# Altium integrated library Lattice ORCA Series 4.IntLib: 36 symbols (part 1 of 9)
Pins are listed as number, name and electrical type; pins without a type are passive.

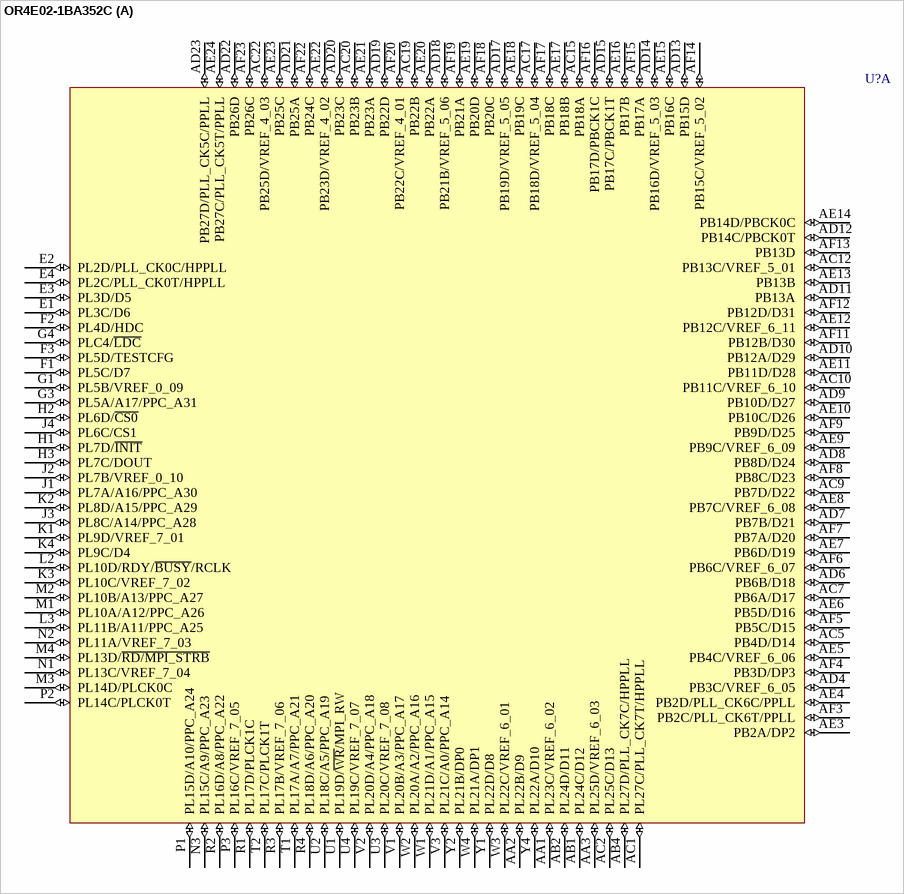
[diagram p0: symbol OR4E02-1BA352C]

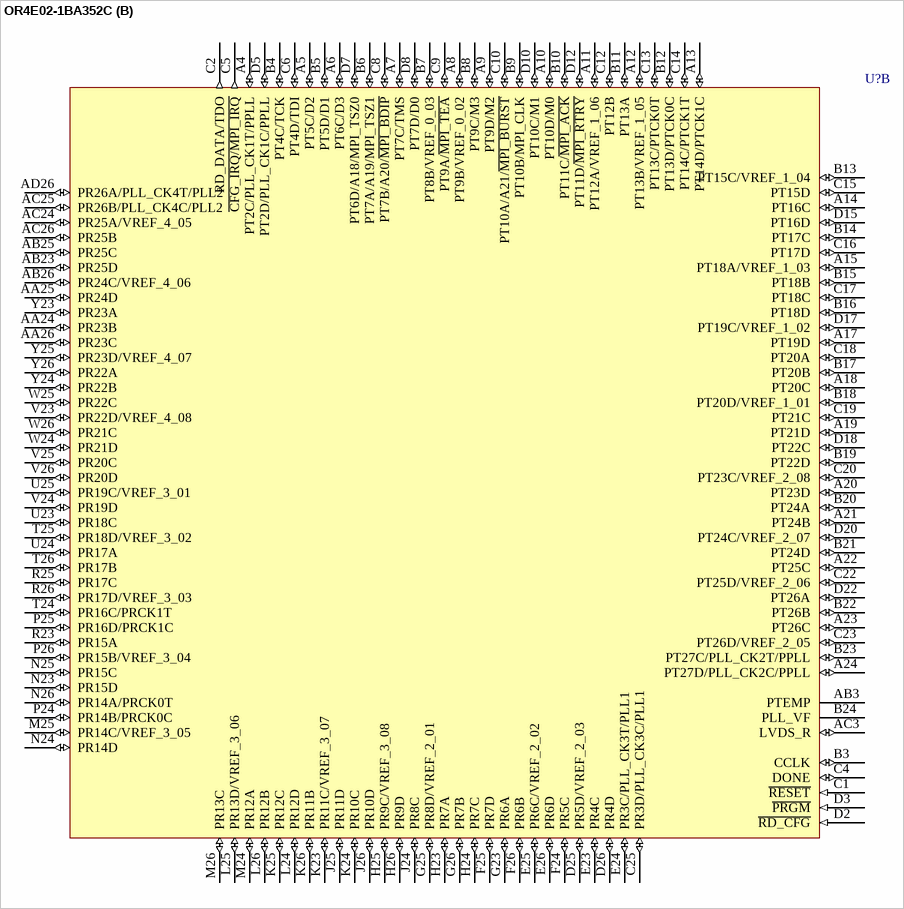
[diagram p1: symbol OR4E02-1BA352C]

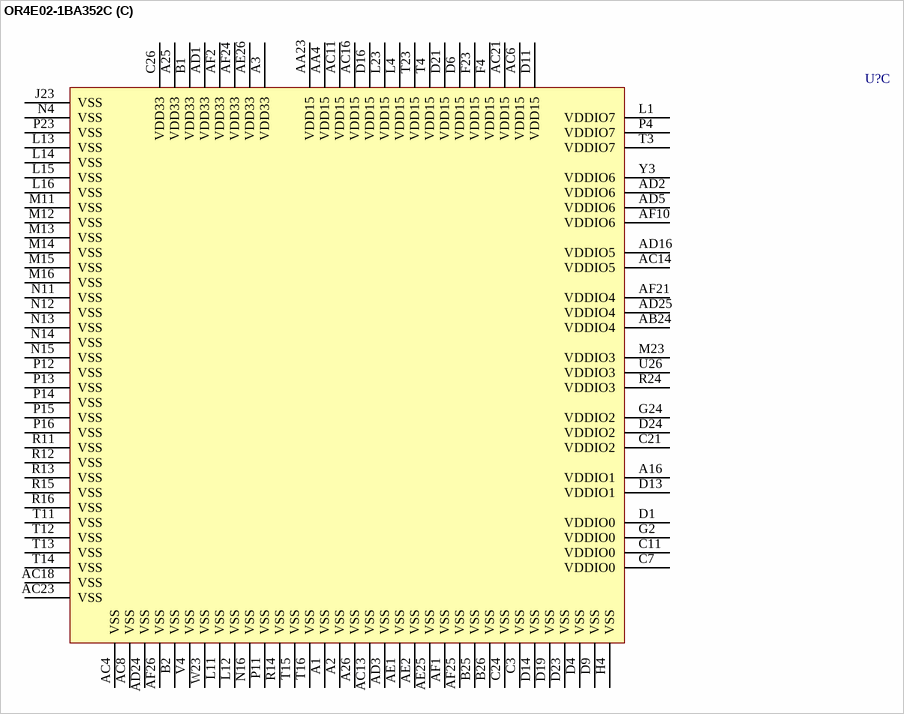
[diagram p2: symbol OR4E02-1BA352C]

## OR4E02-1BA352C
designator U?
ORCA Series 4 FPGA: 1.5 V, Commercial Grade, 405 I/Os.; Published: 21-May-2003; LatestRevisionDate: 13-Apr-2006; LatestRevisionNote: IPC-7351 Footprint Added.; DatasheetVersion: Aug-2003; PackageVersion: pkg_32, Aug-2005; PackageReference: BGA388; Publisher: Altium Limited; PackageDescription: 388-Ball Ball Grid Array (BGA388); ComponentLink1Description: Manufacturer Link; ComponentLink1URL: http://www.latticesemi.com/products/fpga/orca/orca4/index.cfm; ComponentLink2Description: Datasheet; ComponentLink2URL: http://www.latticesemi.com/account/_download.cfm?AMID=3970; ComponentLink3Description: Lattice Login; ComponentLink3URL: http://www.latticesemi.com/account/login.cfm
footprint BGA388 (BGA, 388-Leads, Body 35x35mm, Pitch 1.27mm)
3D model OR4E02-BGA388 (388-Ball Ball Grid Array (BGA388))
part A pins: AA1 PL23C/VREF_6_02 (io), AA2 PL22B/D9 (io), AA3 PL25D/VREF_6_03 (io), AB1 PL24C/D12 (io), AB2 PL24D/D11 (io), AB4 PL27D/PLL_CK7C/HPPLL (io), AC1 PL27C/PLL_CK7T/HPPLL (io), AC2 PL25C/D13 (io), AC5 PB4D/D14 (io), AC7 PB6A/D17 (io), AC9 PB7D/D22 (io), AC10 PB11C/VREF_6_10 (io), AC12 PB13C/VREF_5_01 (io), AC15 PB18A (io), AC17 PB18D/VREF_5_04 (io), AC19 PB22B (io), AC20 PB23B (io), AC22 PB25D/VREF_4_03 (io), AD4 PB3C/VREF_6_05 (io), AD6 PB6B/D18 (io), AD7 PB7B/D21 (io), AD8 PB8D/D24 (io), AD9 PB10D/D27 (io), AD10 PB12A/D29 (io), AD11 PB13A (io), AD12 PB14C/PBCK0T (io), AD13 PB15D (io), AD14 PB16D/VREF_5_03 (io), AD15 PB17C/PBCK1T (io), AD17 PB19D/VREF_5_05 (io), AD18 PB21B/VREF_5_06 (io), AD19 PB22D (io), AD20 PB23C (io), AD21 PB25A (io), AD22 PB26D (io), AD23 PB27D/PLL_CK5C/PPLL (io), AE3 PB2A/DP2 (io), AE4 PB2D/PLL_CK6C/PPLL (io), AE5 PB4C/VREF_6_06 (io), AE6 PB5D/D16 (io), AE7 PB6D/D19 (io), AE8 PB7C/VREF_6_08 (io), AE9 PB9C/VREF_6_09 (io), AE10 PB10C/D26 (io), AE11 PB11D/D28 (io), AE12 PB12C/VREF_6_11 (io), AE13 PB13B (io), AE14 PB14D/PBCK0C (io), AE15 PB16C (io), AE16 PB17B (io), AE17 PB18B (io), AE18 PB19C (io), AE19 PB20D (io), AE20 PB22A (io), AE21 PB23A (io), AE22 PB23D/VREF_4_02 (io), AE23 PB25C (io), AE24 PB27C/PLL_CK5T/PPLL (io), AF3 PB2C/PLL_CK6T/PPLL (io), AF4 PB3D/DP3 (io), AF5 PB5C/D15 (io), AF6 PB6C/VREF_6_07 (io), AF7 PB7A/D20 (io), AF8 PB8C/D23 (io), AF9 PB9D/D25 (io), AF11 PB12B/D30 (io), AF12 PB12D/D31 (io), AF13 PB13D (io), AF14 PB15C/VREF_5_02 (io), AF15 PB17A (io), AF16 PB17D/PBCK1C (io), AF17 PB18C (io), AF18 PB20C (io), AF19 PB21A (io), AF20 PB22C/VREF_4_01 (io), AF22 PB24C (io), AF23 PB26C (io), E1 PL3C/D6 (io), E2 PL2D/PLL_CK0C/HPPLL (io), E3 PL3D/D5 (io), E4 PL2C/PLL_CK0T/HPPLL (io), F1 PL5C/D7 (io), F2 PL4D/HDC (io), F3 PL5D/TESTCFG (io), G1 PL5B/VREF_0_09 (io), G3 PL5A/A17/PPC_A31 (io), G4 PLC4/~{LDC} (io), H1 PL7D/~{INIT} (io), H2 PL6D/~{CS0} (io), H3 PL7C/DOUT (io), J1 PL7A/A16/PPC_A30 (io), J2 PL7B/VREF_0_10 (io), J3 PL8C/A14/PPC_A28 (io), J4 PL6C/CS1 (io), K1 PL9D/VREF_7_01 (io), K2 PL8D/A15/PPC_A29 (io), K3 PL10C/VREF_7_02 (io), K4 PL9C/D4 (io), L2 PL10D/RDY/~{BUSY}/RCLK (io), L3 PL11B/A11/PPC_A25 (io), M1 PL10A/A12/PPC_A26 (io), M2 PL10B/A13/PPC_A27 (io), M3 PL14D/PLCK0C (io), M4 PL13D/~{RD/MPI_STRB} (io), N1 PL13C/VREF_7_04 (io), N2 PL11A/VREF_7_03 (io), N3 PL15C/A9/PPC_A23 (io), P1 PL15D/A10/PPC_A24 (io), P2 PL14C/PLCK0T (io), P3 PL16C/VREF_7_05 (io), R1 PL17D/PLCK1C (io), R2 PL16D/A8/PPC_A22 (io), R3 PL17B/VREF_7_06 (io), R4 PL18D/A6/PPC_A20 (io), T1 PL17A/A7/PPC_A21 (io), T2 PL17C/PLCK1T (io), U1 PL19D/~{WR}/MPI_RW (io), U2 PL18C/A5/PPC_A19 (io), U3 PL20C/VREF_7_08 (io), U4 PL19C/VREF_7_07 (io), V1 PL20B/A3/PPC_A17 (io), V2 PL20D/A4/PPC_A18 (io), V3 PL21C/A0/PPC_A14 (io), W1 PL21D/A1/PPC_A15 (io), W2 PL20A/A2/PPC_A16 (io), W3 PL22C/VREF_6_01 (io), W4 PL21A/DP1 (io), Y1 PL22D/D8 (io), Y2 PL21B/DP0 (io), Y4 PL22A/D10 (io)
part B pins: A4 PT2C/PLL_CK1T/PPLL (io), A5 PT5C/D2 (io), A6 PT6C/D3 (io), A7 PT7C/TMS (io), A8 PT9B/VREF_0_02 (io), A9 PT9D/M2 (io), A10 PT10D/M0 (io), A11 PT12A/VREF_1_06 (io), A12 PT13B/VREF_1_05 (io), A13 PT14D/PTCK1C (io), A14 PT16C (io), A15 PT18A/VREF_1_03 (io), A17 PT19D (io), A18 PT20C (io), A19 PT21D (io), A20 PT23D (io), A21 PT24B (io), A22 PT25C (io), A23 PT26C (io), A24 PT27D/PLL_CK2C/PPLL (io), AA24 PR23B (io), AA25 PR24D (io), AA26 PR23C (io), AB3 PTEMP, AB23 PR25D (io), AB25 PR25C (io), AB26 PR24C/VREF_4_06 (io), AC3 LVDS_R (io), AC24 PR25A/VREF_4_05 (io), AC25 PR26B/PLL_CK4C/PLL2 (io), AC26 PR25B (io), AD26 PR26A/PLL_CK4T/PLL2 (io), B3 CCLK (io), B4 PT4C/TCK (io), B5 PT5D/D1 (io), B6 PT7A/A19/MPI_TSZ1 (io), B7 PT8B/VREF_0_03 (io), B8 PT9C/M3 (io), B9 PT10B/MPI_CLK (io), B10 PT11C/~{MPI_ACK} (io), B11 PT13A (io), B12 PT13D/PTCK0C (io), B13 PT15C/VREF_1_04 (io), B14 PT17C (io), B15 PT18B (io), B16 PT18D (io), B17 PT20B (io), B18 PT20D/VREF_1_01 (io), B19 PT22D (io), B20 PT24A (io), B21 PT24D (io), B22 PT26B (io), B23 PT27C/PLL_CK2T/PPLL (io), B24 PLL_VF, C1 ~{RESET} (in), C2 RD_DATA/TDO (out), C4 DONE (io), C5 ~{CFG_IRQ/MPI_IRQ} (out), C6 PT4D/TDI (io), C8 PT7B/A20/~{MPI_BDIP} (io), C9 PT9A/~{MPI_TEA} (io), C10 PT10A/A21/~{MPI_BURST} (io), C12 PT12B (io), C13 PT13C/PTCK0T (io), C14 PT14C/PTCK1T (io), C15 PT15D (io), C16 PT17D (io), C17 PT18C (io), C18 PT20A (io), C19 PT21C (io), C20 PT23C/VREF_2_08 (io), C22 PT25D/VREF_2_06 (io), C23 PT26D/VREF_2_05 (io), C25 PR3D/PLL_CK3C/PLL1 (io), D2 ~{RD_CFG} (in), D3 ~{PRGM} (in), D5 PT2D/PLL_CK1C/PPLL (io), D7 PT6D/A18/MPI_TSZ0 (io), D8 PT7D/D0 (io), D10 PT10C/M1 (io), D12 PT11D/~{MPI_RTRY} (io), D15 PT16D (io), D17 PT19C/VREF_1_02 (io), D18 PT22C (io), D20 PT24C/VREF_2_07 (io), D22 PT26A (io), D25 PR5D/VREF_2_03 (io), D26 PR4D (io), E23 PR4C (io), E24 PR3C/PLL_CK3T/PLL1 (io), E25 PR6C/VREF_2_02 (io), E26 PR6D (io), F24 PR5C (io), F25 PR7D (io), F26 PR6B (io), G23 PR6A (io), G25 PR8D/VREF_2_01 (io), G26 PR7B (io), H23 PR7A (io), H24 PR7C (io), H25 PR9C/VREF_3_08 (io), H26 PR9D (io), J24 PR8C (io), J25 PR11D (io), J26 PR10D (io), K23 PR11C/VREF_3_07 (io), K24 PR10C (io), K25 PR12C (io), K26 PR11B (io), L24 PR12D (io), L25 PR13D/VREF_3_06 (io), L26 PR12B (io), M24 PR12A (io), M25 PR14C/VREF_3_05 (io), M26 PR13C (io), N23 PR15D (io), N24 PR14D (io), N25 PR15C (io), N26 PR14A/PRCK0T (io), P24 PR14B/PRCK0C (io), P25 PR16D/PRCK1C (io), P26 PR15B/VREF_3_04 (io), R23 PR15A (io), R25 PR17C (io), R26 PR17D/VREF_3_03 (io), T24 PR16C/PRCK1T (io), T25 PR18D/VREF_3_02 (io), T26 PR17B (io), U23 PR18C (io), U24 PR17A (io), U25 PR19C/VREF_3_01 (io), V23 PR22D/VREF_4_08 (io), V24 PR19D (io), V25 PR20C (io), V26 PR20D (io), W24 PR21D (io), W25 PR22C (io), W26 PR21C (io), Y23 PR23A (io), Y24 PR22B (io), Y25 PR23D/VREF_4_07 (io), Y26 PR22A (io)
part C pins: A1 VSS (power), A2 VSS (power), A3 VDD33 (power), A16 VDDIO1 (power), A25 VDD33 (power), A26 VSS (power), AA4 VDD15 (power), AA23 VDD15 (power), AB24 VDDIO4 (power), AC4 VSS (power), AC6 VDD15 (power), AC8 VSS (power), AC11 VDD15 (power), AC13 VSS (power), AC14 VDDIO5 (power), AC16 VDD15 (power), AC18 VSS (power), AC21 VDD15 (power), AC23 VSS (power), AD1 VDD33 (power), AD2 VDDIO6 (power), AD3 VSS (power), AD5 VDDIO6 (power), AD16 VDDIO5 (power), AD24 VSS (power), AD25 VDDIO4 (power), AE1 VSS (power), AE2 VSS (power), AE25 VSS (power), AE26 VDD33 (power), AF1 VSS (power), AF2 VDD33 (power), AF10 VDDIO6 (power), AF21 VDDIO4 (power), AF24 VDD33 (power), AF25 VSS (power), AF26 VSS (power), B1 VDD33 (power), B2 VSS (power), B25 VSS (power), B26 VSS (power), C3 VSS (power), C7 VDDIO0 (power), C11 VDDIO0 (power), C21 VDDIO2 (power), C24 VSS (power), C26 VDD33 (power), D1 VDDIO0 (power), D4 VSS (power), D6 VDD15 (power), D9 VSS (power), D11 VDD15 (power), D13 VDDIO1 (power), D14 VSS (power), D16 VDD15 (power), D19 VSS (power), D21 VDD15 (power), D23 VSS (power), D24 VDDIO2 (power), F4 VDD15 (power), F23 VDD15 (power), G2 VDDIO0 (power), G24 VDDIO2 (power), H4 VSS (power), J23 VSS (power), L1 VDDIO7 (power), L4 VDD15 (power), L11 VSS (power), L12 VSS (power), L13 VSS (power), L14 VSS (power), L15 VSS (power), L16 VSS (power), L23 VDD15 (power), M11 VSS (power), M12 VSS (power), M13 VSS (power), M14 VSS (power), M15 VSS (power), M16 VSS (power), M23 VDDIO3 (power), N4 VSS (power), N11 VSS (power), N12 VSS (power), N13 VSS (power), N14 VSS (power), N15 VSS (power), N16 VSS (power), P4 VDDIO7 (power), P11 VSS (power), P12 VSS (power), P13 VSS (power), P14 VSS (power), P15 VSS (power), P16 VSS (power), P23 VSS (power), R11 VSS (power), R12 VSS (power), R13 VSS (power), R14 VSS (power), R15 VSS (power), R16 VSS (power), R24 VDDIO3 (power), T3 VDDIO7 (power), T4 VDD15 (power), T11 VSS (power), T12 VSS (power), T13 VSS (power), T14 VSS (power), T15 VSS (power), T16 VSS (power), T23 VDD15 (power), U26 VDDIO3 (power), V4 VSS (power), W23 VSS (power), Y3 VDDIO6 (power)

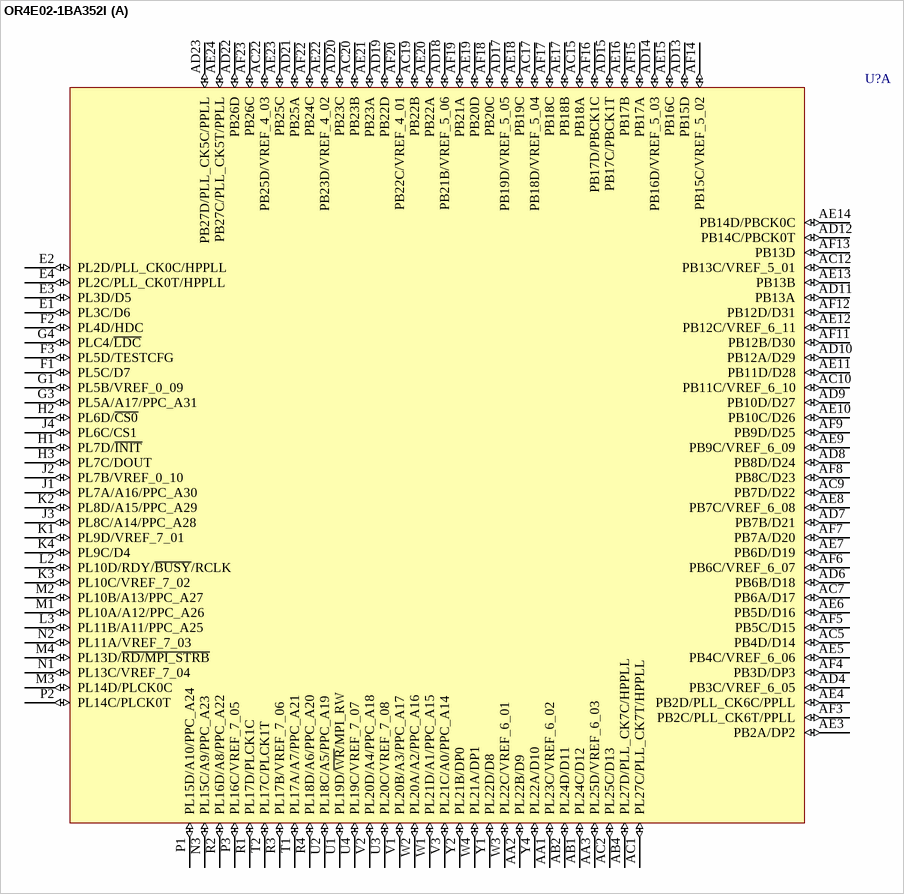
[diagram p3: symbol OR4E02-1BA352I]

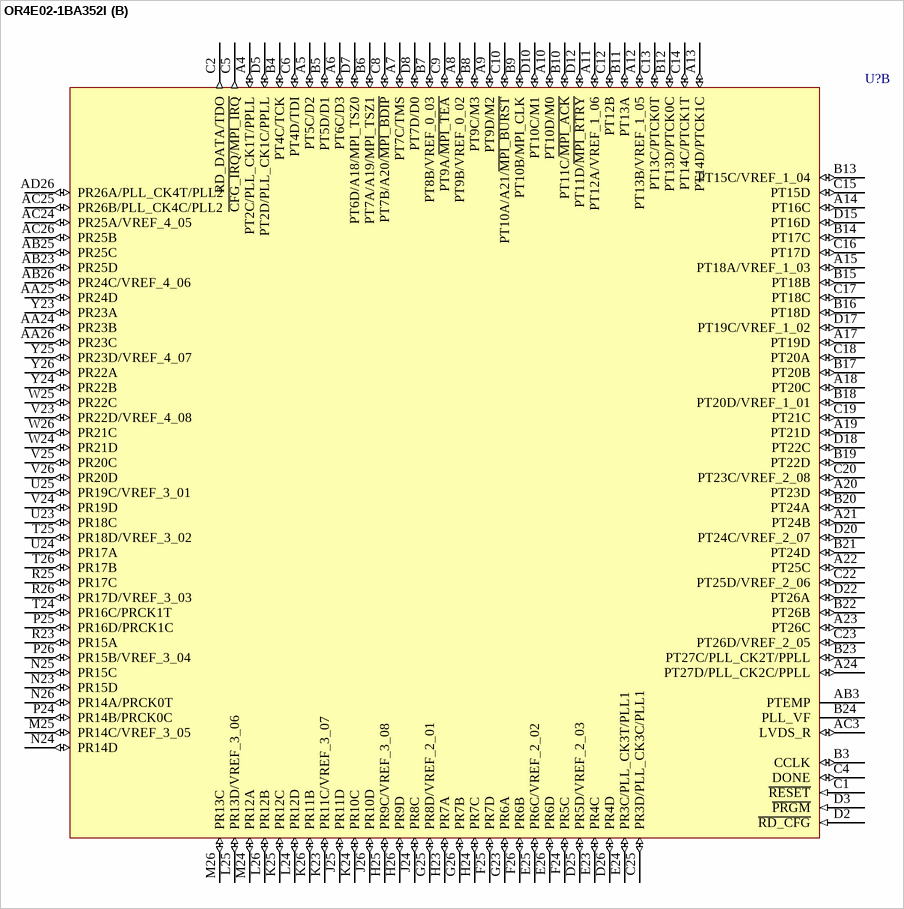
[diagram p4: symbol OR4E02-1BA352I]

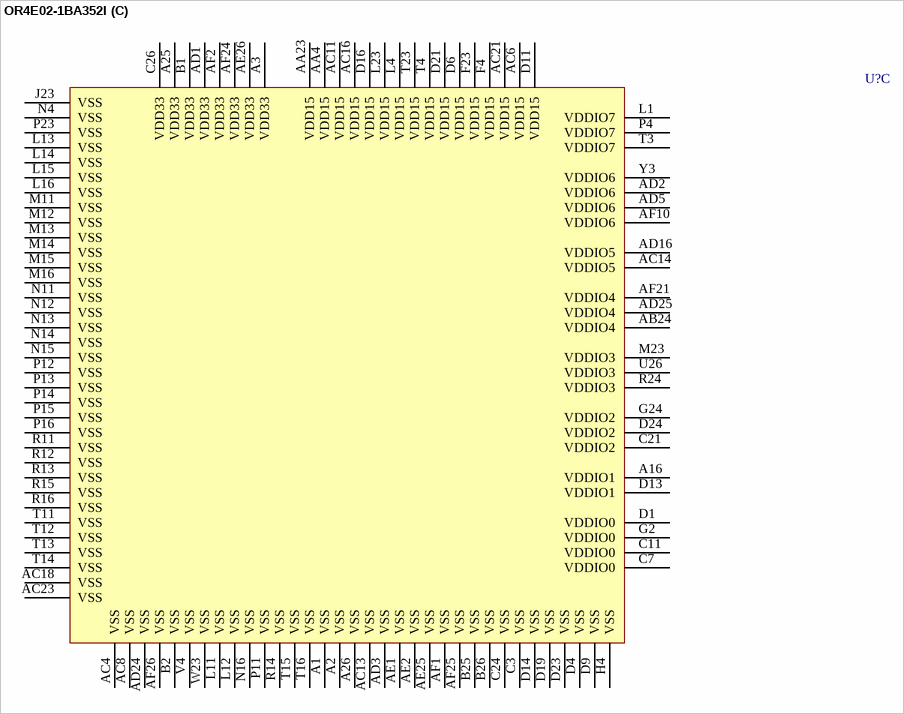
[diagram p5: symbol OR4E02-1BA352I]

## OR4E02-1BA352I
designator U?
ORCA Series 4 FPGA: 1.5 V, Industrial Grade, 405 I/Os.; Published: 21-May-2003; LatestRevisionDate: 13-Apr-2006; LatestRevisionNote: IPC-7351 Footprint Added.; DatasheetVersion: Aug-2003; PackageVersion: pkg_32, Aug-2005; PackageReference: BGA388; Publisher: Altium Limited; PackageDescription: 388-Ball Ball Grid Array (BGA388); ComponentLink1Description: Manufacturer Link; ComponentLink1URL: http://www.latticesemi.com/products/fpga/orca/orca4/index.cfm; ComponentLink2Description: Datasheet; ComponentLink2URL: http://www.latticesemi.com/account/_download.cfm?AMID=3970; ComponentLink3Description: Lattice Login; ComponentLink3URL: http://www.latticesemi.com/account/login.cfm
footprint BGA388 (BGA, 388-Leads, Body 35x35mm, Pitch 1.27mm)
3D model OR4E02-BGA388 (388-Ball Ball Grid Array (BGA388))
part A pins: AA1 PL23C/VREF_6_02 (io), AA2 PL22B/D9 (io), AA3 PL25D/VREF_6_03 (io), AB1 PL24C/D12 (io), AB2 PL24D/D11 (io), AB4 PL27D/PLL_CK7C/HPPLL (io), AC1 PL27C/PLL_CK7T/HPPLL (io), AC2 PL25C/D13 (io), AC5 PB4D/D14 (io), AC7 PB6A/D17 (io), AC9 PB7D/D22 (io), AC10 PB11C/VREF_6_10 (io), AC12 PB13C/VREF_5_01 (io), AC15 PB18A (io), AC17 PB18D/VREF_5_04 (io), AC19 PB22B (io), AC20 PB23B (io), AC22 PB25D/VREF_4_03 (io), AD4 PB3C/VREF_6_05 (io), AD6 PB6B/D18 (io), AD7 PB7B/D21 (io), AD8 PB8D/D24 (io), AD9 PB10D/D27 (io), AD10 PB12A/D29 (io), AD11 PB13A (io), AD12 PB14C/PBCK0T (io), AD13 PB15D (io), AD14 PB16D/VREF_5_03 (io), AD15 PB17C/PBCK1T (io), AD17 PB19D/VREF_5_05 (io), AD18 PB21B/VREF_5_06 (io), AD19 PB22D (io), AD20 PB23C (io), AD21 PB25A (io), AD22 PB26D (io), AD23 PB27D/PLL_CK5C/PPLL (io), AE3 PB2A/DP2 (io), AE4 PB2D/PLL_CK6C/PPLL (io), AE5 PB4C/VREF_6_06 (io), AE6 PB5D/D16 (io), AE7 PB6D/D19 (io), AE8 PB7C/VREF_6_08 (io), AE9 PB9C/VREF_6_09 (io), AE10 PB10C/D26 (io), AE11 PB11D/D28 (io), AE12 PB12C/VREF_6_11 (io), AE13 PB13B (io), AE14 PB14D/PBCK0C (io), AE15 PB16C (io), AE16 PB17B (io), AE17 PB18B (io), AE18 PB19C (io), AE19 PB20D (io), AE20 PB22A (io), AE21 PB23A (io), AE22 PB23D/VREF_4_02 (io), AE23 PB25C (io), AE24 PB27C/PLL_CK5T/PPLL (io), AF3 PB2C/PLL_CK6T/PPLL (io), AF4 PB3D/DP3 (io), AF5 PB5C/D15 (io), AF6 PB6C/VREF_6_07 (io), AF7 PB7A/D20 (io), AF8 PB8C/D23 (io), AF9 PB9D/D25 (io), AF11 PB12B/D30 (io), AF12 PB12D/D31 (io), AF13 PB13D (io), AF14 PB15C/VREF_5_02 (io), AF15 PB17A (io), AF16 PB17D/PBCK1C (io), AF17 PB18C (io), AF18 PB20C (io), AF19 PB21A (io), AF20 PB22C/VREF_4_01 (io), AF22 PB24C (io), AF23 PB26C (io), E1 PL3C/D6 (io), E2 PL2D/PLL_CK0C/HPPLL (io), E3 PL3D/D5 (io), E4 PL2C/PLL_CK0T/HPPLL (io), F1 PL5C/D7 (io), F2 PL4D/HDC (io), F3 PL5D/TESTCFG (io), G1 PL5B/VREF_0_09 (io), G3 PL5A/A17/PPC_A31 (io), G4 PLC4/~{LDC} (io), H1 PL7D/~{INIT} (io), H2 PL6D/~{CS0} (io), H3 PL7C/DOUT (io), J1 PL7A/A16/PPC_A30 (io), J2 PL7B/VREF_0_10 (io), J3 PL8C/A14/PPC_A28 (io), J4 PL6C/CS1 (io), K1 PL9D/VREF_7_01 (io), K2 PL8D/A15/PPC_A29 (io), K3 PL10C/VREF_7_02 (io), K4 PL9C/D4 (io), L2 PL10D/RDY/~{BUSY}/RCLK (io), L3 PL11B/A11/PPC_A25 (io), M1 PL10A/A12/PPC_A26 (io), M2 PL10B/A13/PPC_A27 (io), M3 PL14D/PLCK0C (io), M4 PL13D/~{RD/MPI_STRB} (io), N1 PL13C/VREF_7_04 (io), N2 PL11A/VREF_7_03 (io), N3 PL15C/A9/PPC_A23 (io), P1 PL15D/A10/PPC_A24 (io), P2 PL14C/PLCK0T (io), P3 PL16C/VREF_7_05 (io), R1 PL17D/PLCK1C (io), R2 PL16D/A8/PPC_A22 (io), R3 PL17B/VREF_7_06 (io), R4 PL18D/A6/PPC_A20 (io), T1 PL17A/A7/PPC_A21 (io), T2 PL17C/PLCK1T (io), U1 PL19D/~{WR}/MPI_RW (io), U2 PL18C/A5/PPC_A19 (io), U3 PL20C/VREF_7_08 (io), U4 PL19C/VREF_7_07 (io), V1 PL20B/A3/PPC_A17 (io), V2 PL20D/A4/PPC_A18 (io), V3 PL21C/A0/PPC_A14 (io), W1 PL21D/A1/PPC_A15 (io), W2 PL20A/A2/PPC_A16 (io), W3 PL22C/VREF_6_01 (io), W4 PL21A/DP1 (io), Y1 PL22D/D8 (io), Y2 PL21B/DP0 (io), Y4 PL22A/D10 (io)
part B pins: A4 PT2C/PLL_CK1T/PPLL (io), A5 PT5C/D2 (io), A6 PT6C/D3 (io), A7 PT7C/TMS (io), A8 PT9B/VREF_0_02 (io), A9 PT9D/M2 (io), A10 PT10D/M0 (io), A11 PT12A/VREF_1_06 (io), A12 PT13B/VREF_1_05 (io), A13 PT14D/PTCK1C (io), A14 PT16C (io), A15 PT18A/VREF_1_03 (io), A17 PT19D (io), A18 PT20C (io), A19 PT21D (io), A20 PT23D (io), A21 PT24B (io), A22 PT25C (io), A23 PT26C (io), A24 PT27D/PLL_CK2C/PPLL (io), AA24 PR23B (io), AA25 PR24D (io), AA26 PR23C (io), AB3 PTEMP, AB23 PR25D (io), AB25 PR25C (io), AB26 PR24C/VREF_4_06 (io), AC3 LVDS_R (io), AC24 PR25A/VREF_4_05 (io), AC25 PR26B/PLL_CK4C/PLL2 (io), AC26 PR25B (io), AD26 PR26A/PLL_CK4T/PLL2 (io), B3 CCLK (io), B4 PT4C/TCK (io), B5 PT5D/D1 (io), B6 PT7A/A19/MPI_TSZ1 (io), B7 PT8B/VREF_0_03 (io), B8 PT9C/M3 (io), B9 PT10B/MPI_CLK (io), B10 PT11C/~{MPI_ACK} (io), B11 PT13A (io), B12 PT13D/PTCK0C (io), B13 PT15C/VREF_1_04 (io), B14 PT17C (io), B15 PT18B (io), B16 PT18D (io), B17 PT20B (io), B18 PT20D/VREF_1_01 (io), B19 PT22D (io), B20 PT24A (io), B21 PT24D (io), B22 PT26B (io), B23 PT27C/PLL_CK2T/PPLL (io), B24 PLL_VF, C1 ~{RESET} (in), C2 RD_DATA/TDO (out), C4 DONE (io), C5 ~{CFG_IRQ/MPI_IRQ} (out), C6 PT4D/TDI (io), C8 PT7B/A20/~{MPI_BDIP} (io), C9 PT9A/~{MPI_TEA} (io), C10 PT10A/A21/~{MPI_BURST} (io), C12 PT12B (io), C13 PT13C/PTCK0T (io), C14 PT14C/PTCK1T (io), C15 PT15D (io), C16 PT17D (io), C17 PT18C (io), C18 PT20A (io), C19 PT21C (io), C20 PT23C/VREF_2_08 (io), C22 PT25D/VREF_2_06 (io), C23 PT26D/VREF_2_05 (io), C25 PR3D/PLL_CK3C/PLL1 (io), D2 ~{RD_CFG} (in), D3 ~{PRGM} (in), D5 PT2D/PLL_CK1C/PPLL (io), D7 PT6D/A18/MPI_TSZ0 (io), D8 PT7D/D0 (io), D10 PT10C/M1 (io), D12 PT11D/~{MPI_RTRY} (io), D15 PT16D (io), D17 PT19C/VREF_1_02 (io), D18 PT22C (io), D20 PT24C/VREF_2_07 (io), D22 PT26A (io), D25 PR5D/VREF_2_03 (io), D26 PR4D (io), E23 PR4C (io), E24 PR3C/PLL_CK3T/PLL1 (io), E25 PR6C/VREF_2_02 (io), E26 PR6D (io), F24 PR5C (io), F25 PR7D (io), F26 PR6B (io), G23 PR6A (io), G25 PR8D/VREF_2_01 (io), G26 PR7B (io), H23 PR7A (io), H24 PR7C (io), H25 PR9C/VREF_3_08 (io), H26 PR9D (io), J24 PR8C (io), J25 PR11D (io), J26 PR10D (io), K23 PR11C/VREF_3_07 (io), K24 PR10C (io), K25 PR12C (io), K26 PR11B (io), L24 PR12D (io), L25 PR13D/VREF_3_06 (io), L26 PR12B (io), M24 PR12A (io), M25 PR14C/VREF_3_05 (io), M26 PR13C (io), N23 PR15D (io), N24 PR14D (io), N25 PR15C (io), N26 PR14A/PRCK0T (io), P24 PR14B/PRCK0C (io), P25 PR16D/PRCK1C (io), P26 PR15B/VREF_3_04 (io), R23 PR15A (io), R25 PR17C (io), R26 PR17D/VREF_3_03 (io), T24 PR16C/PRCK1T (io), T25 PR18D/VREF_3_02 (io), T26 PR17B (io), U23 PR18C (io), U24 PR17A (io), U25 PR19C/VREF_3_01 (io), V23 PR22D/VREF_4_08 (io), V24 PR19D (io), V25 PR20C (io), V26 PR20D (io), W24 PR21D (io), W25 PR22C (io), W26 PR21C (io), Y23 PR23A (io), Y24 PR22B (io), Y25 PR23D/VREF_4_07 (io), Y26 PR22A (io)
part C pins: A1 VSS (power), A2 VSS (power), A3 VDD33 (power), A16 VDDIO1 (power), A25 VDD33 (power), A26 VSS (power), AA4 VDD15 (power), AA23 VDD15 (power), AB24 VDDIO4 (power), AC4 VSS (power), AC6 VDD15 (power), AC8 VSS (power), AC11 VDD15 (power), AC13 VSS (power), AC14 VDDIO5 (power), AC16 VDD15 (power), AC18 VSS (power), AC21 VDD15 (power), AC23 VSS (power), AD1 VDD33 (power), AD2 VDDIO6 (power), AD3 VSS (power), AD5 VDDIO6 (power), AD16 VDDIO5 (power), AD24 VSS (power), AD25 VDDIO4 (power), AE1 VSS (power), AE2 VSS (power), AE25 VSS (power), AE26 VDD33 (power), AF1 VSS (power), AF2 VDD33 (power), AF10 VDDIO6 (power), AF21 VDDIO4 (power), AF24 VDD33 (power), AF25 VSS (power), AF26 VSS (power), B1 VDD33 (power), B2 VSS (power), B25 VSS (power), B26 VSS (power), C3 VSS (power), C7 VDDIO0 (power), C11 VDDIO0 (power), C21 VDDIO2 (power), C24 VSS (power), C26 VDD33 (power), D1 VDDIO0 (power), D4 VSS (power), D6 VDD15 (power), D9 VSS (power), D11 VDD15 (power), D13 VDDIO1 (power), D14 VSS (power), D16 VDD15 (power), D19 VSS (power), D21 VDD15 (power), D23 VSS (power), D24 VDDIO2 (power), F4 VDD15 (power), F23 VDD15 (power), G2 VDDIO0 (power), G24 VDDIO2 (power), H4 VSS (power), J23 VSS (power), L1 VDDIO7 (power), L4 VDD15 (power), L11 VSS (power), L12 VSS (power), L13 VSS (power), L14 VSS (power), L15 VSS (power), L16 VSS (power), L23 VDD15 (power), M11 VSS (power), M12 VSS (power), M13 VSS (power), M14 VSS (power), M15 VSS (power), M16 VSS (power), M23 VDDIO3 (power), N4 VSS (power), N11 VSS (power), N12 VSS (power), N13 VSS (power), N14 VSS (power), N15 VSS (power), N16 VSS (power), P4 VDDIO7 (power), P11 VSS (power), P12 VSS (power), P13 VSS (power), P14 VSS (power), P15 VSS (power), P16 VSS (power), P23 VSS (power), R11 VSS (power), R12 VSS (power), R13 VSS (power), R14 VSS (power), R15 VSS (power), R16 VSS (power), R24 VDDIO3 (power), T3 VDDIO7 (power), T4 VDD15 (power), T11 VSS (power), T12 VSS (power), T13 VSS (power), T14 VSS (power), T15 VSS (power), T16 VSS (power), T23 VDD15 (power), U26 VDDIO3 (power), V4 VSS (power), W23 VSS (power), Y3 VDDIO6 (power)

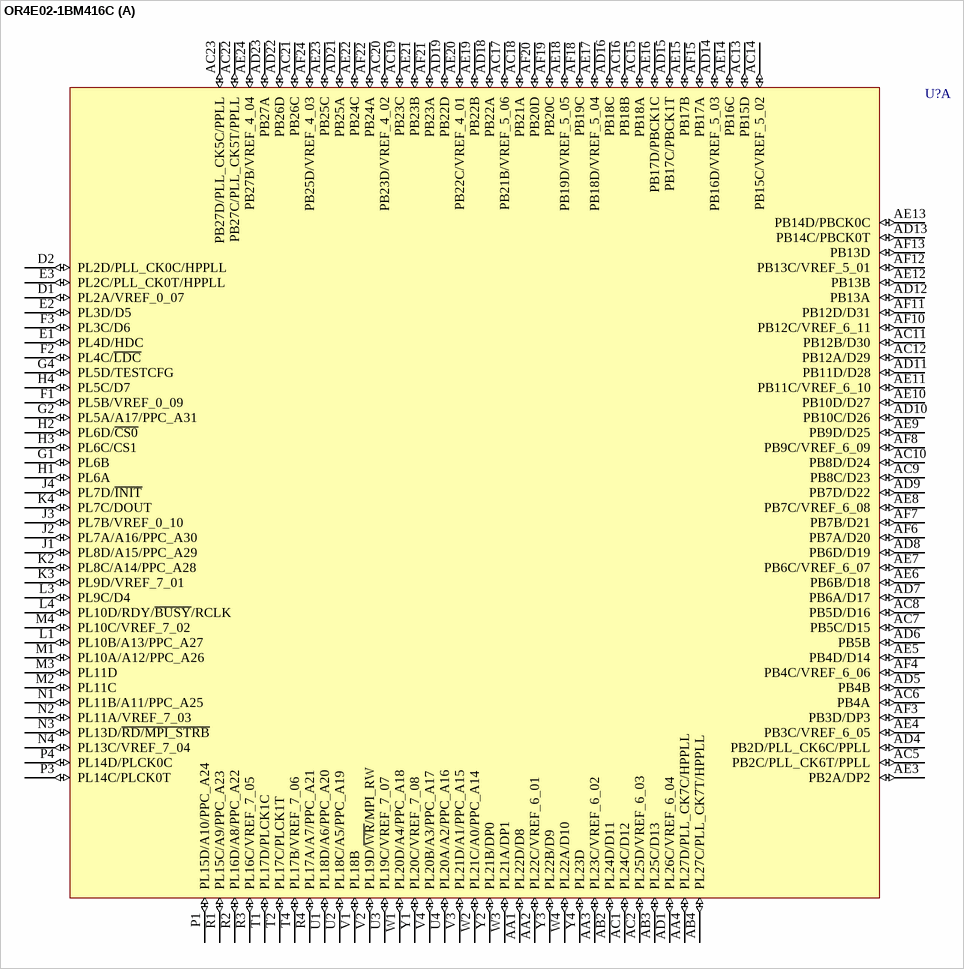
[diagram p6: symbol OR4E02-1BM416C]

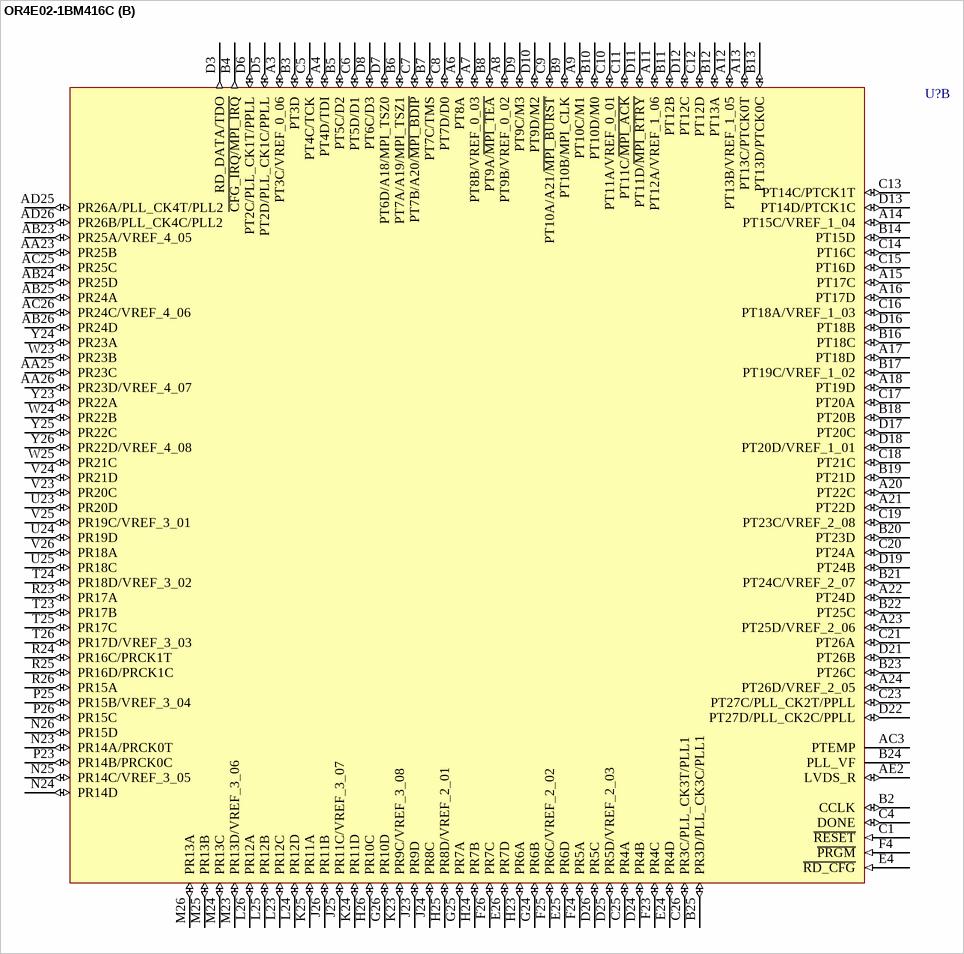
[diagram p7: symbol OR4E02-1BM416C]

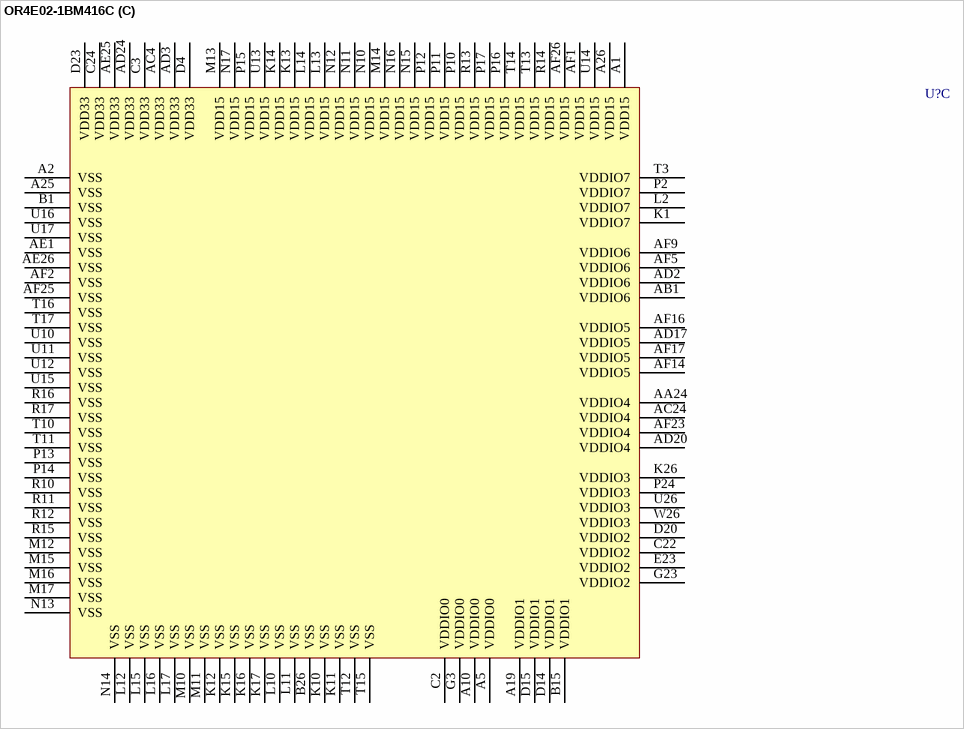
[diagram p8: symbol OR4E02-1BM416C]

## OR4E02-1BM416C
designator U?
ORCA Series 4 FPGA: 1.5 V, Commercial Grade, 405 I/Os.; Published: 21-May-2003; LatestRevisionDate: 13-Apr-2006; LatestRevisionNote: IPC-7351 Footprint Added.; DatasheetVersion: Aug-2003; PackageVersion: pkg_32, Aug-2005; PackageReference: fpBGA416; Publisher: Altium Limited; PackageDescription: 416-Ball Fine Pitch Ball Grid Array (fpBGA416); ComponentLink1Description: Manufacturer Link; ComponentLink1URL: http://www.latticesemi.com/products/fpga/orca/orca4/index.cfm; ComponentLink2Description: Datasheet; ComponentLink2URL: http://www.latticesemi.com/account/_download.cfm?AMID=3970; ComponentLink3Description: Lattice Login; ComponentLink3URL: http://www.latticesemi.com/account/login.cfm
footprint fpBGA416 (BGA, 416-Leads, Body 27x27mm, Pitch 1mm)
3D model OR4E02-fpBGA416 (416-Ball Fine Pitch Ball Grid Array (fpBGA416))
part A pins: AA1 PL22D/D8 (io), AA2 PL22C/VREF_6_01 (io), AA3 PL23C/VREF_6_02 (io), AA4 PL27D/PLL_CK7C/HPPLL (io), AB2 PL24D/D11 (io), AB3 PL25C/D13 (io), AB4 PL27C/PLL_CK7T/HPPLL (io), AC1 PL24C/D12 (io), AC2 PL25D/VREF_6_03 (io), AC5 PB2C/PLL_CK6T/PPLL (io), AC6 PB4A (io), AC7 PB5C/D15 (io), AC8 PB5D/D16 (io), AC9 PB8C/D23 (io), AC10 PB8D/D24 (io), AC11 PB12B/D30 (io), AC12 PB12A/D29 (io), AC13 PB15D (io), AC14 PB15C/VREF_5_02 (io), AC15 PB18A (io), AC16 PB18B (io), AC17 PB21B/VREF_5_06 (io), AC18 PB21A (io), AC19 PB23C (io), AC20 PB23D/VREF_4_02 (io), AC21 PB26C (io), AC22 PB27C/PLL_CK5T/PPLL (io), AC23 PB27D/PLL_CK5C/PPLL (io), AD1 PL26C/VREF_6_04 (io), AD4 PB2D/PLL_CK6C/PPLL (io), AD5 PB4B (io), AD6 PB5B (io), AD7 PB6A/D17 (io), AD8 PB6D/D19 (io), AD9 PB7D/D22 (io), AD10 PB10C/D26 (io), AD11 PB11D/D28 (io), AD12 PB13A (io), AD13 PB14C/PBCK0T (io), AD14 PB16D/VREF_5_03 (io), AD15 PB17C/PBCK1T (io), AD16 PB18C (io), AD18 PB22A (io), AD19 PB22D (io), AD21 PB25A (io), AD22 PB26D (io), AD23 PB27A (io), AE3 PB2A/DP2 (io), AE4 PB3C/VREF_6_05 (io), AE5 PB4D/D14 (io), AE6 PB6B/D18 (io), AE7 PB6C/VREF_6_07 (io), AE8 PB7C/VREF_6_08 (io), AE9 PB9D/D25 (io), AE10 PB10D/D27 (io), AE11 PB11C/VREF_6_10 (io), AE12 PB13B (io), AE13 PB14D/PBCK0C (io), AE14 PB16C (io), AE15 PB17B (io), AE16 PB17D/PBCK1C (io), AE17 PB18D/VREF_5_04 (io), AE18 PB19D/VREF_5_05 (io), AE19 PB22B (io), AE20 PB22C/VREF_4_01 (io), AE21 PB23B (io), AE22 PB24C (io), AE23 PB25C (io), AE24 PB27B/VREF_4_04 (io), AF3 PB3D/DP3 (io), AF4 PB4C/VREF_6_06 (io), AF6 PB7A/D20 (io), AF7 PB7B/D21 (io), AF8 PB9C/VREF_6_09 (io), AF10 PB12C/VREF_6_11 (io), AF11 PB12D/D31 (io), AF12 PB13C/VREF_5_01 (io), AF13 PB13D (io), AF15 PB17A (io), AF18 PB19C (io), AF19 PB20C (io), AF20 PB20D (io), AF21 PB23A (io), AF22 PB24A (io), AF24 PB25D/VREF_4_03 (io), D1 PL2A/VREF_0_07 (io), D2 PL2D/PLL_CK0C/HPPLL (io), E1 PL4D/HDC (io), E2 PL3D/D5 (io), E3 PL2C/PLL_CK0T/HPPLL (io), F1 PL5B/VREF_0_09 (io), F2 PL4C/~{LDC} (io), F3 PL3C/D6 (io), G1 PL6B (io), G2 PL5A/A17/PPC_A31 (io), G4 PL5D/TESTCFG (io), H1 PL6A (io), H2 PL6D/~{CS0} (io), H3 PL6C/CS1 (io), H4 PL5C/D7 (io), J1 PL8D/A15/PPC_A29 (io), J2 PL7A/A16/PPC_A30 (io), J3 PL7B/VREF_0_10 (io), J4 PL7D/~{INIT} (io), K2 PL8C/A14/PPC_A28 (io), K3 PL9D/VREF_7_01 (io), K4 PL7C/DOUT (io), L1 PL10B/A13/PPC_A27 (io), L3 PL9C/D4 (io), L4 PL10D/RDY/~{BUSY}/RCLK (io), M1 PL10A/A12/PPC_A26 (io), M2 PL11C (io), M3 PL11D (io), M4 PL10C/VREF_7_02 (io), N1 PL11B/A11/PPC_A25 (io), N2 PL11A/VREF_7_03 (io), N3 PL13D/~{RD/MPI_STRB} (io), N4 PL13C/VREF_7_04 (io), P1 PL15D/A10/PPC_A24 (io), P3 PL14C/PLCK0T (io), P4 PL14D/PLCK0C (io), R1 PL15C/A9/PPC_A23 (io), R2 PL16D/A8/PPC_A22 (io), R3 PL16C/VREF_7_05 (io), R4 PL17A/A7/PPC_A21 (io), T1 PL17D/PLCK1C (io), T2 PL17C/PLCK1T (io), T4 PL17B/VREF_7_06 (io), U1 PL18D/A6/PPC_A20 (io), U2 PL18C/A5/PPC_A19 (io), U3 PL19C/VREF_7_07 (io), U4 PL20A/A2/PPC_A16 (io), V1 PL18B (io), V2 PL19D/~{WR}/MPI_RW (io), V3 PL21D/A1/PPC_A15 (io), V4 PL20B/A3/PPC_A17 (io), W1 PL20D/A4/PPC_A18 (io), W2 PL21C/A0/PPC_A14 (io), W3 PL21A/DP1 (io), W4 PL22A/D10 (io), Y1 PL20C/VREF_7_08 (io), Y2 PL21B/DP0 (io), Y3 PL22B/D9 (io), Y4 PL23D (io)
part B pins: A3 PT3C/VREF_0_06 (io), A4 PT4D/TDI (io), A6 PT8A (io), A7 PT8B/VREF_0_03 (io), A8 PT9B/VREF_0_02 (io), A9 PT10C/M1 (io), A11 PT12A/VREF_1_06 (io), A12 PT13B/VREF_1_05 (io), A13 PT13C/PTCK0T (io), A14 PT15C/VREF_1_04 (io), A15 PT17C (io), A16 PT17D (io), A17 PT18D (io), A18 PT19D (io), A20 PT22C (io), A21 PT22D (io), A22 PT24D (io), A23 PT25D/VREF_2_06 (io), A24 PT26D/VREF_2_05 (io), AA23 PR25B (io), AA25 PR23C (io), AA26 PR23D/VREF_4_07 (io), AB23 PR25A/VREF_4_05 (io), AB24 PR25D (io), AB25 PR24A (io), AB26 PR24D (io), AC3 PTEMP, AC25 PR25C (io), AC26 PR24C/VREF_4_06 (io), AD25 PR26A/PLL_CK4T/PLL2 (io), AD26 PR26B/PLL_CK4C/PLL2 (io), AE2 LVDS_R (io), B2 CCLK (io), B3 PT3D (io), B4 ~{CFG_IRQ/MPI_IRQ} (out), B5 PT5C/D2 (io), B6 PT7A/A19/MPI_TSZ1 (io), B7 PT7C/TMS (io), B8 PT9A/~{MPI_TEA} (io), B9 PT10B/MPI_CLK (io), B10 PT10D/M0 (io), B11 PT12B (io), B12 PT13A (io), B13 PT13D/PTCK0C (io), B14 PT15D (io), B16 PT18C (io), B17 PT19C/VREF_1_02 (io), B18 PT20B (io), B19 PT21D (io), B20 PT23D (io), B21 PT24C/VREF_2_07 (io), B22 PT25C (io), B23 PT26C (io), B24 PLL_VF, B25 PR3D/PLL_CK3C/PLL1 (io), C1 ~{RESET} (in), C4 DONE (io), C5 PT4C/TCK (io), C6 PT5D/D1 (io), C7 PT7B/A20/~{MPI_BDIP} (io), C8 PT7D/D0 (io), C9 PT10A/A21/~{MPI_BURST} (io), C10 PT11A/VREF_0_01 (io), C11 PT11C/~{MPI_ACK} (io), C12 PT12D (io), C13 PT14C/PTCK1T (io), C14 PT16C (io), C15 PT16D (io), C16 PT18A/VREF_1_03 (io), C17 PT20A (io), C18 PT21C (io), C19 PT23C/VREF_2_08 (io), C20 PT24A (io), C21 PT26A (io), C23 PT27C/PLL_CK2T/PPLL (io), C25 PR4A (io), C26 PR3C/PLL_CK3T/PLL1 (io), D3 RD_DATA/TDO (out), D5 PT2D/PLL_CK1C/PPLL (io), D6 PT2C/PLL_CK1T/PPLL (io), D7 PT6D/A18/MPI_TSZ0 (io), D8 PT6C/D3 (io), D9 PT9C/M3 (io), D10 PT9D/M2 (io), D11 PT11D/~{MPI_RTRY} (io), D12 PT12C (io), D13 PT14D/PTCK1C (io), D16 PT18B (io), D17 PT20C (io), D18 PT20D/VREF_1_01 (io), D19 PT24B (io), D21 PT26B (io), D22 PT27D/PLL_CK2C/PPLL (io), D24 PR4B (io), D25 PR5D/VREF_2_03 (io), D26 PR5C (io), E4 ~{RD_CFG} (in), E24 PR4D (io), E25 PR6D (io), E26 PR7D (io), F4 ~{PRGM} (in), F23 PR4C (io), F24 PR5A (io), F25 PR6C/VREF_2_02 (io), F26 PR7C (io), G24 PR6B (io), G25 PR7A (io), G26 PR10D (io), H23 PR6A (io), H24 PR7B (io), H25 PR8D/VREF_2_01 (io), H26 PR10C (io), J23 PR9D (io), J24 PR8C (io), J25 PR11C/VREF_3_07 (io), J26 PR11B (io), K23 PR9C/VREF_3_08 (io), K24 PR11D (io), K25 PR11A (io), L23 PR12C (io), L24 PR12D (io), L25 PR12B (io), L26 PR12A (io), M23 PR13D/VREF_3_06 (io), M24 PR13C (io), M25 PR13B (io), M26 PR13A (io), N23 PR14A/PRCK0T (io), N24 PR14D (io), N25 PR14C/VREF_3_05 (io), N26 PR15D (io), P23 PR14B/PRCK0C (io), P25 PR15B/VREF_3_04 (io), P26 PR15C (io), R23 PR17A (io), R24 PR16C/PRCK1T (io), R25 PR16D/PRCK1C (io), R26 PR15A (io), T23 PR17B (io), T24 PR18D/VREF_3_02 (io), T25 PR17C (io), T26 PR17D/VREF_3_03 (io), U23 PR20D (io), U24 PR19D (io), U25 PR18C (io), V23 PR20C (io), V24 PR21D (io), V25 PR19C/VREF_3_01 (io), V26 PR18A (io), W23 PR23B (io), W24 PR22B (io), W25 PR21C (io), Y23 PR22A (io), Y24 PR23A (io), Y25 PR22C (io), Y26 PR22D/VREF_4_08 (io)
part C pins: A1 VDD15 (power), A2 VSS (power), A5 VDDIO0 (power), A10 VDDIO0 (power), A19 VDDIO1 (power), A25 VSS (power), A26 VDD15 (power), AA24 VDDIO4 (power), AB1 VDDIO6 (power), AC4 VDD33 (power), AC24 VDDIO4 (power), AD2 VDDIO6 (power), AD3 VDD33 (power), AD17 VDDIO5 (power), AD20 VDDIO4 (power), AD24 VDD33 (power), AE1 VSS (power), AE25 VDD33 (power), AE26 VSS (power), AF1 VDD15 (power), AF2 VSS (power), AF5 VDDIO6 (power), AF9 VDDIO6 (power), AF14 VDDIO5 (power), AF16 VDDIO5 (power), AF17 VDDIO5 (power), AF23 VDDIO4 (power), AF25 VSS (power), AF26 VDD15 (power), B1 VSS (power), B15 VDDIO1 (power), B26 VSS (power), C2 VDDIO0 (power), C3 VDD33 (power), C22 VDDIO2 (power), C24 VDD33 (power), D4 VDD33 (power), D14 VDDIO1 (power), D15 VDDIO1 (power), D20 VDDIO2 (power), D23 VDD33 (power), E23 VDDIO2 (power), G3 VDDIO0 (power), G23 VDDIO2 (power), K1 VDDIO7 (power), K10 VSS (power), K11 VSS (power), K12 VSS (power), K13 VDD15 (power), K14 VDD15 (power), K15 VSS (power), K16 VSS (power), K17 VSS (power), K26 VDDIO3 (power), L2 VDDIO7 (power), L10 VSS (power), L11 VSS (power), L12 VSS (power), L13 VDD15 (power), L14 VDD15 (power), L15 VSS (power), L16 VSS (power), L17 VSS (power), M10 VSS (power), M11 VSS (power), M12 VSS (power), M13 VDD15 (power), M14 VDD15 (power), M15 VSS (power), M16 VSS (power), M17 VSS (power), N10 VDD15 (power), N11 VDD15 (power), N12 VDD15 (power), N13 VSS (power), N14 VSS (power), N15 VDD15 (power), N16 VDD15 (power), N17 VDD15 (power), P2 VDDIO7 (power), P10 VDD15 (power), P11 VDD15 (power), P12 VDD15 (power), P13 VSS (power), P14 VSS (power), P15 VDD15 (power), P16 VDD15 (power), P17 VDD15 (power), P24 VDDIO3 (power), R10 VSS (power), R11 VSS (power), R12 VSS (power), R13 VDD15 (power), R14 VDD15 (power), R15 VSS (power), R16 VSS (power), R17 VSS (power), T3 VDDIO7 (power), T10 VSS (power), T11 VSS (power), T12 VSS (power), T13 VDD15 (power), T14 VDD15 (power), T15 VSS (power), T16 VSS (power), T17 VSS (power), U10 VSS (power), U11 VSS (power), U12 VSS (power), U13 VDD15 (power), U14 VDD15 (power), U15 VSS (power), U16 VSS (power), U17 VSS (power), U26 VDDIO3 (power), W26 VDDIO3 (power)

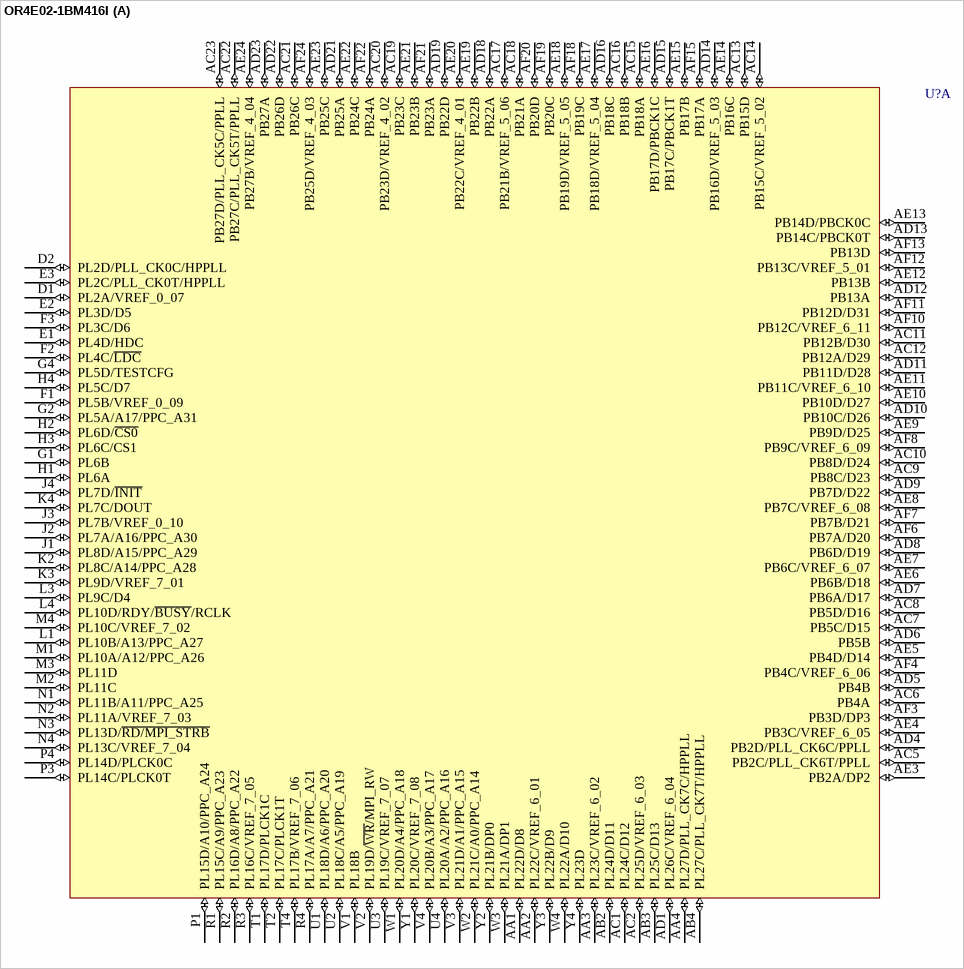
[diagram p9: symbol OR4E02-1BM416I]

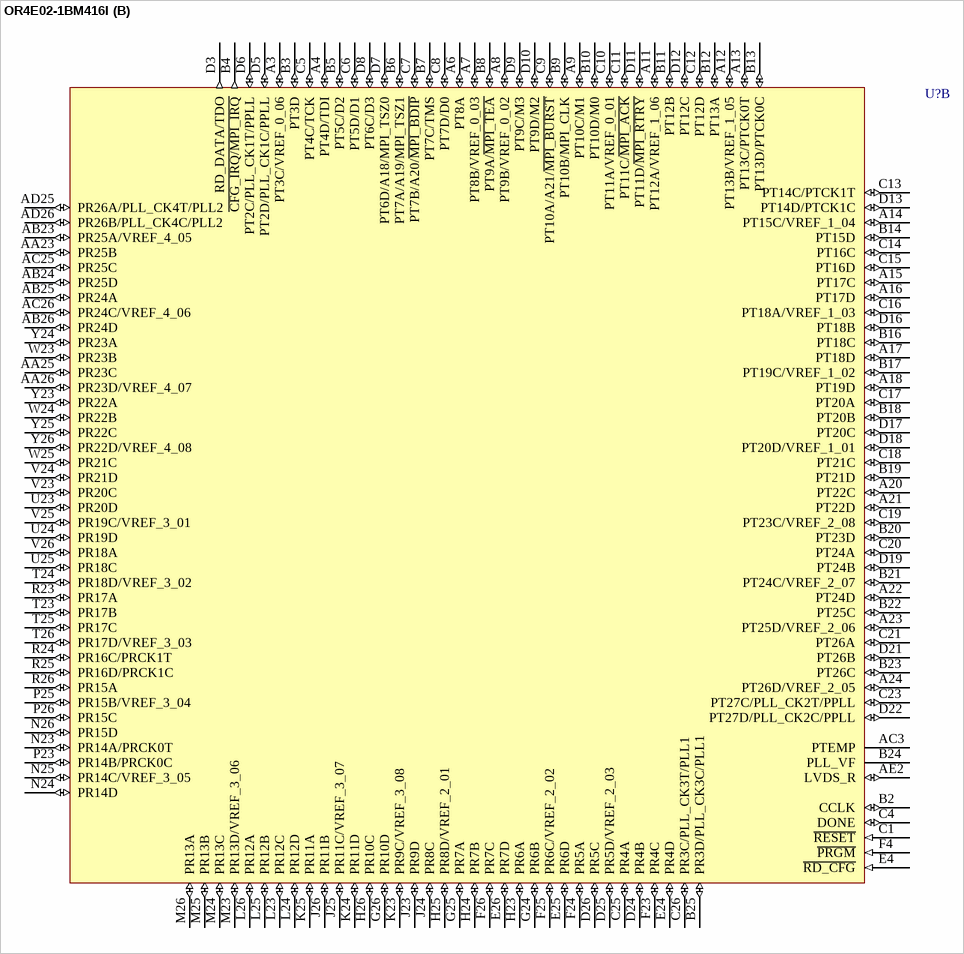
[diagram p10: symbol OR4E02-1BM416I]

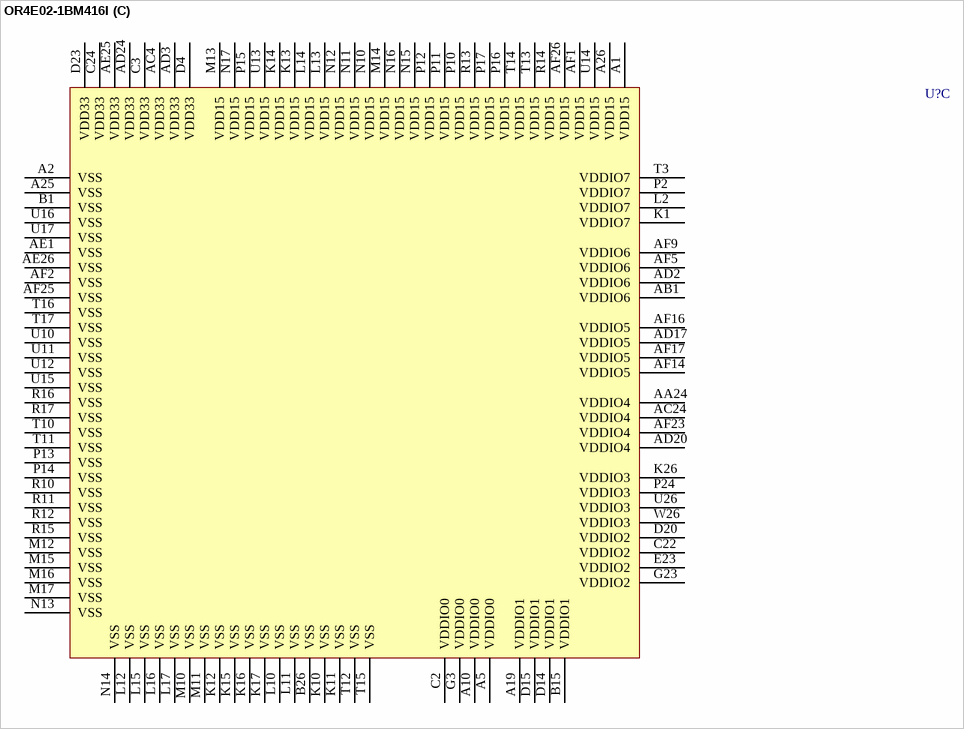
[diagram p11: symbol OR4E02-1BM416I]

## OR4E02-1BM416I
designator U?
ORCA Series 4 FPGA: 1.5 V, Industrial Grade, 405 I/Os.; Published: 21-May-2003; LatestRevisionDate: 13-Apr-2006; LatestRevisionNote: IPC-7351 Footprint Added.; DatasheetVersion: Aug-2003; PackageVersion: pkg_32, Aug-2005; PackageReference: fpBGA416; Publisher: Altium Limited; PackageDescription: 416-Ball Fine Pitch Ball Grid Array (fpBGA416); ComponentLink1Description: Manufacturer Link; ComponentLink1URL: http://www.latticesemi.com/products/fpga/orca/orca4/index.cfm; ComponentLink2Description: Datasheet; ComponentLink2URL: http://www.latticesemi.com/account/_download.cfm?AMID=3970; ComponentLink3Description: Lattice Login; ComponentLink3URL: http://www.latticesemi.com/account/login.cfm
footprint fpBGA416 (BGA, 416-Leads, Body 27x27mm, Pitch 1mm)
3D model OR4E02-fpBGA416 (416-Ball Fine Pitch Ball Grid Array (fpBGA416))
part A pins: AA1 PL22D/D8 (io), AA2 PL22C/VREF_6_01 (io), AA3 PL23C/VREF_6_02 (io), AA4 PL27D/PLL_CK7C/HPPLL (io), AB2 PL24D/D11 (io), AB3 PL25C/D13 (io), AB4 PL27C/PLL_CK7T/HPPLL (io), AC1 PL24C/D12 (io), AC2 PL25D/VREF_6_03 (io), AC5 PB2C/PLL_CK6T/PPLL (io), AC6 PB4A (io), AC7 PB5C/D15 (io), AC8 PB5D/D16 (io), AC9 PB8C/D23 (io), AC10 PB8D/D24 (io), AC11 PB12B/D30 (io), AC12 PB12A/D29 (io), AC13 PB15D (io), AC14 PB15C/VREF_5_02 (io), AC15 PB18A (io), AC16 PB18B (io), AC17 PB21B/VREF_5_06 (io), AC18 PB21A (io), AC19 PB23C (io), AC20 PB23D/VREF_4_02 (io), AC21 PB26C (io), AC22 PB27C/PLL_CK5T/PPLL (io), AC23 PB27D/PLL_CK5C/PPLL (io), AD1 PL26C/VREF_6_04 (io), AD4 PB2D/PLL_CK6C/PPLL (io), AD5 PB4B (io), AD6 PB5B (io), AD7 PB6A/D17 (io), AD8 PB6D/D19 (io), AD9 PB7D/D22 (io), AD10 PB10C/D26 (io), AD11 PB11D/D28 (io), AD12 PB13A (io), AD13 PB14C/PBCK0T (io), AD14 PB16D/VREF_5_03 (io), AD15 PB17C/PBCK1T (io), AD16 PB18C (io), AD18 PB22A (io), AD19 PB22D (io), AD21 PB25A (io), AD22 PB26D (io), AD23 PB27A (io), AE3 PB2A/DP2 (io), AE4 PB3C/VREF_6_05 (io), AE5 PB4D/D14 (io), AE6 PB6B/D18 (io), AE7 PB6C/VREF_6_07 (io), AE8 PB7C/VREF_6_08 (io), AE9 PB9D/D25 (io), AE10 PB10D/D27 (io), AE11 PB11C/VREF_6_10 (io), AE12 PB13B (io), AE13 PB14D/PBCK0C (io), AE14 PB16C (io), AE15 PB17B (io), AE16 PB17D/PBCK1C (io), AE17 PB18D/VREF_5_04 (io), AE18 PB19D/VREF_5_05 (io), AE19 PB22B (io), AE20 PB22C/VREF_4_01 (io), AE21 PB23B (io), AE22 PB24C (io), AE23 PB25C (io), AE24 PB27B/VREF_4_04 (io), AF3 PB3D/DP3 (io), AF4 PB4C/VREF_6_06 (io), AF6 PB7A/D20 (io), AF7 PB7B/D21 (io), AF8 PB9C/VREF_6_09 (io), AF10 PB12C/VREF_6_11 (io), AF11 PB12D/D31 (io), AF12 PB13C/VREF_5_01 (io), AF13 PB13D (io), AF15 PB17A (io), AF18 PB19C (io), AF19 PB20C (io), AF20 PB20D (io), AF21 PB23A (io), AF22 PB24A (io), AF24 PB25D/VREF_4_03 (io), D1 PL2A/VREF_0_07 (io), D2 PL2D/PLL_CK0C/HPPLL (io), E1 PL4D/HDC (io), E2 PL3D/D5 (io), E3 PL2C/PLL_CK0T/HPPLL (io), F1 PL5B/VREF_0_09 (io), F2 PL4C/~{LDC} (io), F3 PL3C/D6 (io), G1 PL6B (io), G2 PL5A/A17/PPC_A31 (io), G4 PL5D/TESTCFG (io), H1 PL6A (io), H2 PL6D/~{CS0} (io), H3 PL6C/CS1 (io), H4 PL5C/D7 (io), J1 PL8D/A15/PPC_A29 (io), J2 PL7A/A16/PPC_A30 (io), J3 PL7B/VREF_0_10 (io), J4 PL7D/~{INIT} (io), K2 PL8C/A14/PPC_A28 (io), K3 PL9D/VREF_7_01 (io), K4 PL7C/DOUT (io), L1 PL10B/A13/PPC_A27 (io), L3 PL9C/D4 (io), L4 PL10D/RDY/~{BUSY}/RCLK (io), M1 PL10A/A12/PPC_A26 (io), M2 PL11C (io), M3 PL11D (io), M4 PL10C/VREF_7_02 (io), N1 PL11B/A11/PPC_A25 (io), N2 PL11A/VREF_7_03 (io), N3 PL13D/~{RD/MPI_STRB} (io), N4 PL13C/VREF_7_04 (io), P1 PL15D/A10/PPC_A24 (io), P3 PL14C/PLCK0T (io), P4 PL14D/PLCK0C (io), R1 PL15C/A9/PPC_A23 (io), R2 PL16D/A8/PPC_A22 (io), R3 PL16C/VREF_7_05 (io), R4 PL17A/A7/PPC_A21 (io), T1 PL17D/PLCK1C (io), T2 PL17C/PLCK1T (io), T4 PL17B/VREF_7_06 (io), U1 PL18D/A6/PPC_A20 (io), U2 PL18C/A5/PPC_A19 (io), U3 PL19C/VREF_7_07 (io), U4 PL20A/A2/PPC_A16 (io), V1 PL18B (io), V2 PL19D/~{WR}/MPI_RW (io), V3 PL21D/A1/PPC_A15 (io), V4 PL20B/A3/PPC_A17 (io), W1 PL20D/A4/PPC_A18 (io), W2 PL21C/A0/PPC_A14 (io), W3 PL21A/DP1 (io), W4 PL22A/D10 (io), Y1 PL20C/VREF_7_08 (io), Y2 PL21B/DP0 (io), Y3 PL22B/D9 (io), Y4 PL23D (io)
part B pins: A3 PT3C/VREF_0_06 (io), A4 PT4D/TDI (io), A6 PT8A (io), A7 PT8B/VREF_0_03 (io), A8 PT9B/VREF_0_02 (io), A9 PT10C/M1 (io), A11 PT12A/VREF_1_06 (io), A12 PT13B/VREF_1_05 (io), A13 PT13C/PTCK0T (io), A14 PT15C/VREF_1_04 (io), A15 PT17C (io), A16 PT17D (io), A17 PT18D (io), A18 PT19D (io), A20 PT22C (io), A21 PT22D (io), A22 PT24D (io), A23 PT25D/VREF_2_06 (io), A24 PT26D/VREF_2_05 (io), AA23 PR25B (io), AA25 PR23C (io), AA26 PR23D/VREF_4_07 (io), AB23 PR25A/VREF_4_05 (io), AB24 PR25D (io), AB25 PR24A (io), AB26 PR24D (io), AC3 PTEMP, AC25 PR25C (io), AC26 PR24C/VREF_4_06 (io), AD25 PR26A/PLL_CK4T/PLL2 (io), AD26 PR26B/PLL_CK4C/PLL2 (io), AE2 LVDS_R (io), B2 CCLK (io), B3 PT3D (io), B4 ~{CFG_IRQ/MPI_IRQ} (out), B5 PT5C/D2 (io), B6 PT7A/A19/MPI_TSZ1 (io), B7 PT7C/TMS (io), B8 PT9A/~{MPI_TEA} (io), B9 PT10B/MPI_CLK (io), B10 PT10D/M0 (io), B11 PT12B (io), B12 PT13A (io), B13 PT13D/PTCK0C (io), B14 PT15D (io), B16 PT18C (io), B17 PT19C/VREF_1_02 (io), B18 PT20B (io), B19 PT21D (io), B20 PT23D (io), B21 PT24C/VREF_2_07 (io), B22 PT25C (io), B23 PT26C (io), B24 PLL_VF, B25 PR3D/PLL_CK3C/PLL1 (io), C1 ~{RESET} (in), C4 DONE (io), C5 PT4C/TCK (io), C6 PT5D/D1 (io), C7 PT7B/A20/~{MPI_BDIP} (io), C8 PT7D/D0 (io), C9 PT10A/A21/~{MPI_BURST} (io), C10 PT11A/VREF_0_01 (io), C11 PT11C/~{MPI_ACK} (io), C12 PT12D (io), C13 PT14C/PTCK1T (io), C14 PT16C (io), C15 PT16D (io), C16 PT18A/VREF_1_03 (io), C17 PT20A (io), C18 PT21C (io), C19 PT23C/VREF_2_08 (io), C20 PT24A (io), C21 PT26A (io), C23 PT27C/PLL_CK2T/PPLL (io), C25 PR4A (io), C26 PR3C/PLL_CK3T/PLL1 (io), D3 RD_DATA/TDO (out), D5 PT2D/PLL_CK1C/PPLL (io), D6 PT2C/PLL_CK1T/PPLL (io), D7 PT6D/A18/MPI_TSZ0 (io), D8 PT6C/D3 (io), D9 PT9C/M3 (io), D10 PT9D/M2 (io), D11 PT11D/~{MPI_RTRY} (io), D12 PT12C (io), D13 PT14D/PTCK1C (io), D16 PT18B (io), D17 PT20C (io), D18 PT20D/VREF_1_01 (io), D19 PT24B (io), D21 PT26B (io), D22 PT27D/PLL_CK2C/PPLL (io), D24 PR4B (io), D25 PR5D/VREF_2_03 (io), D26 PR5C (io), E4 ~{RD_CFG} (in), E24 PR4D (io), E25 PR6D (io), E26 PR7D (io), F4 ~{PRGM} (in), F23 PR4C (io), F24 PR5A (io), F25 PR6C/VREF_2_02 (io), F26 PR7C (io), G24 PR6B (io), G25 PR7A (io), G26 PR10D (io), H23 PR6A (io), H24 PR7B (io), H25 PR8D/VREF_2_01 (io), H26 PR10C (io), J23 PR9D (io), J24 PR8C (io), J25 PR11C/VREF_3_07 (io), J26 PR11B (io), K23 PR9C/VREF_3_08 (io), K24 PR11D (io), K25 PR11A (io), L23 PR12C (io), L24 PR12D (io), L25 PR12B (io), L26 PR12A (io), M23 PR13D/VREF_3_06 (io), M24 PR13C (io), M25 PR13B (io), M26 PR13A (io), N23 PR14A/PRCK0T (io), N24 PR14D (io), N25 PR14C/VREF_3_05 (io), N26 PR15D (io), P23 PR14B/PRCK0C (io), P25 PR15B/VREF_3_04 (io), P26 PR15C (io), R23 PR17A (io), R24 PR16C/PRCK1T (io), R25 PR16D/PRCK1C (io), R26 PR15A (io), T23 PR17B (io), T24 PR18D/VREF_3_02 (io), T25 PR17C (io), T26 PR17D/VREF_3_03 (io), U23 PR20D (io), U24 PR19D (io), U25 PR18C (io), V23 PR20C (io), V24 PR21D (io), V25 PR19C/VREF_3_01 (io), V26 PR18A (io), W23 PR23B (io), W24 PR22B (io), W25 PR21C (io), Y23 PR22A (io), Y24 PR23A (io), Y25 PR22C (io), Y26 PR22D/VREF_4_08 (io)
part C pins: A1 VDD15 (power), A2 VSS (power), A5 VDDIO0 (power), A10 VDDIO0 (power), A19 VDDIO1 (power), A25 VSS (power), A26 VDD15 (power), AA24 VDDIO4 (power), AB1 VDDIO6 (power), AC4 VDD33 (power), AC24 VDDIO4 (power), AD2 VDDIO6 (power), AD3 VDD33 (power), AD17 VDDIO5 (power), AD20 VDDIO4 (power), AD24 VDD33 (power), AE1 VSS (power), AE25 VDD33 (power), AE26 VSS (power), AF1 VDD15 (power), AF2 VSS (power), AF5 VDDIO6 (power), AF9 VDDIO6 (power), AF14 VDDIO5 (power), AF16 VDDIO5 (power), AF17 VDDIO5 (power), AF23 VDDIO4 (power), AF25 VSS (power), AF26 VDD15 (power), B1 VSS (power), B15 VDDIO1 (power), B26 VSS (power), C2 VDDIO0 (power), C3 VDD33 (power), C22 VDDIO2 (power), C24 VDD33 (power), D4 VDD33 (power), D14 VDDIO1 (power), D15 VDDIO1 (power), D20 VDDIO2 (power), D23 VDD33 (power), E23 VDDIO2 (power), G3 VDDIO0 (power), G23 VDDIO2 (power), K1 VDDIO7 (power), K10 VSS (power), K11 VSS (power), K12 VSS (power), K13 VDD15 (power), K14 VDD15 (power), K15 VSS (power), K16 VSS (power), K17 VSS (power), K26 VDDIO3 (power), L2 VDDIO7 (power), L10 VSS (power), L11 VSS (power), L12 VSS (power), L13 VDD15 (power), L14 VDD15 (power), L15 VSS (power), L16 VSS (power), L17 VSS (power), M10 VSS (power), M11 VSS (power), M12 VSS (power), M13 VDD15 (power), M14 VDD15 (power), M15 VSS (power), M16 VSS (power), M17 VSS (power), N10 VDD15 (power), N11 VDD15 (power), N12 VDD15 (power), N13 VSS (power), N14 VSS (power), N15 VDD15 (power), N16 VDD15 (power), N17 VDD15 (power), P2 VDDIO7 (power), P10 VDD15 (power), P11 VDD15 (power), P12 VDD15 (power), P13 VSS (power), P14 VSS (power), P15 VDD15 (power), P16 VDD15 (power), P17 VDD15 (power), P24 VDDIO3 (power), R10 VSS (power), R11 VSS (power), R12 VSS (power), R13 VDD15 (power), R14 VDD15 (power), R15 VSS (power), R16 VSS (power), R17 VSS (power), T3 VDDIO7 (power), T10 VSS (power), T11 VSS (power), T12 VSS (power), T13 VDD15 (power), T14 VDD15 (power), T15 VSS (power), T16 VSS (power), T17 VSS (power), U10 VSS (power), U11 VSS (power), U12 VSS (power), U13 VDD15 (power), U14 VDD15 (power), U15 VSS (power), U16 VSS (power), U17 VSS (power), U26 VDDIO3 (power), W26 VDDIO3 (power)

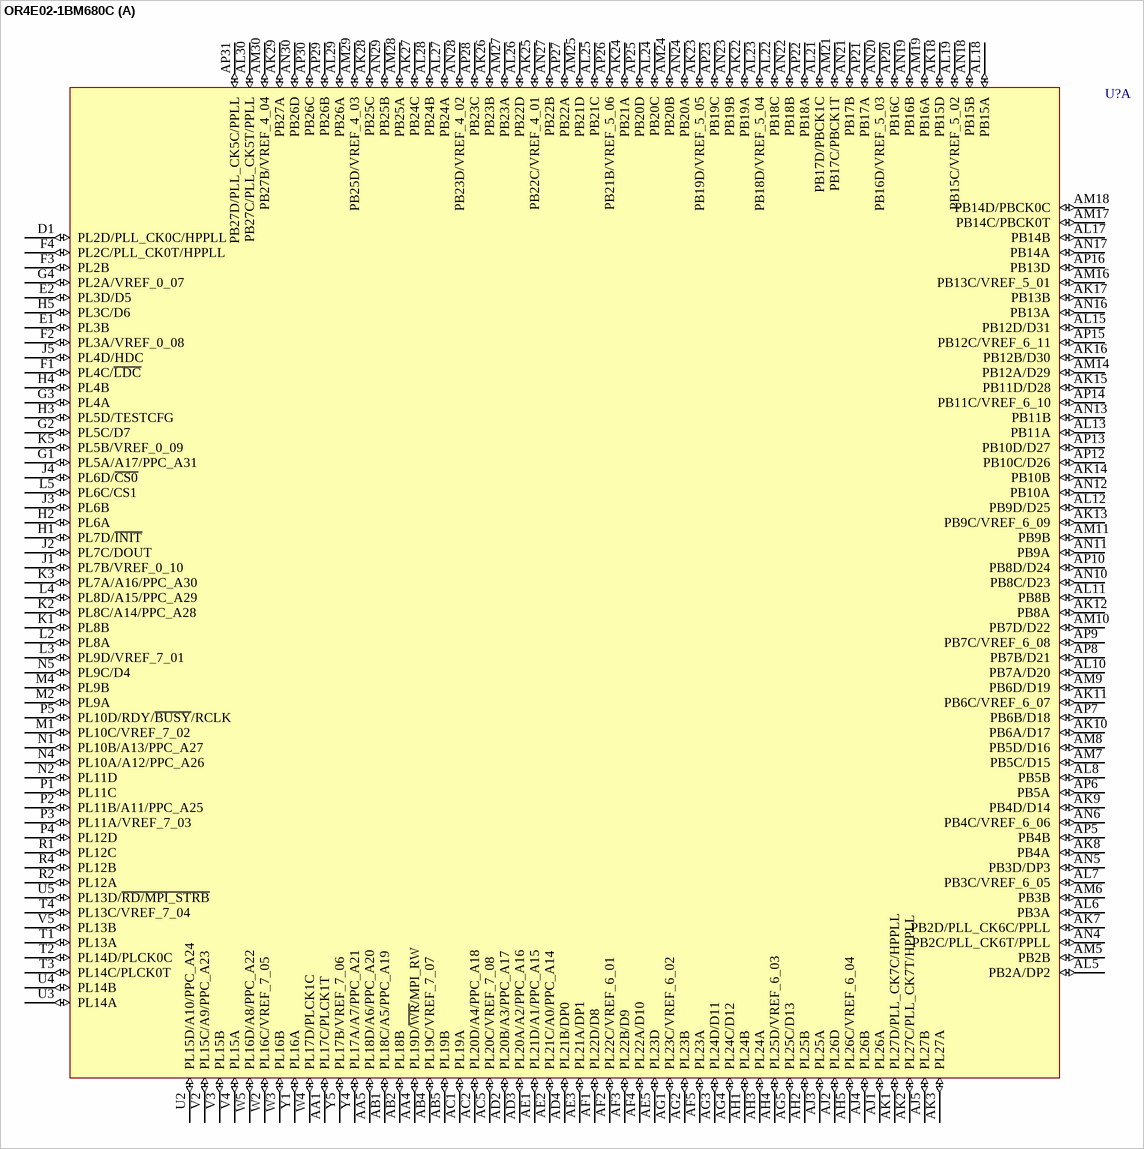
[diagram p12: symbol OR4E02-1BM680C]

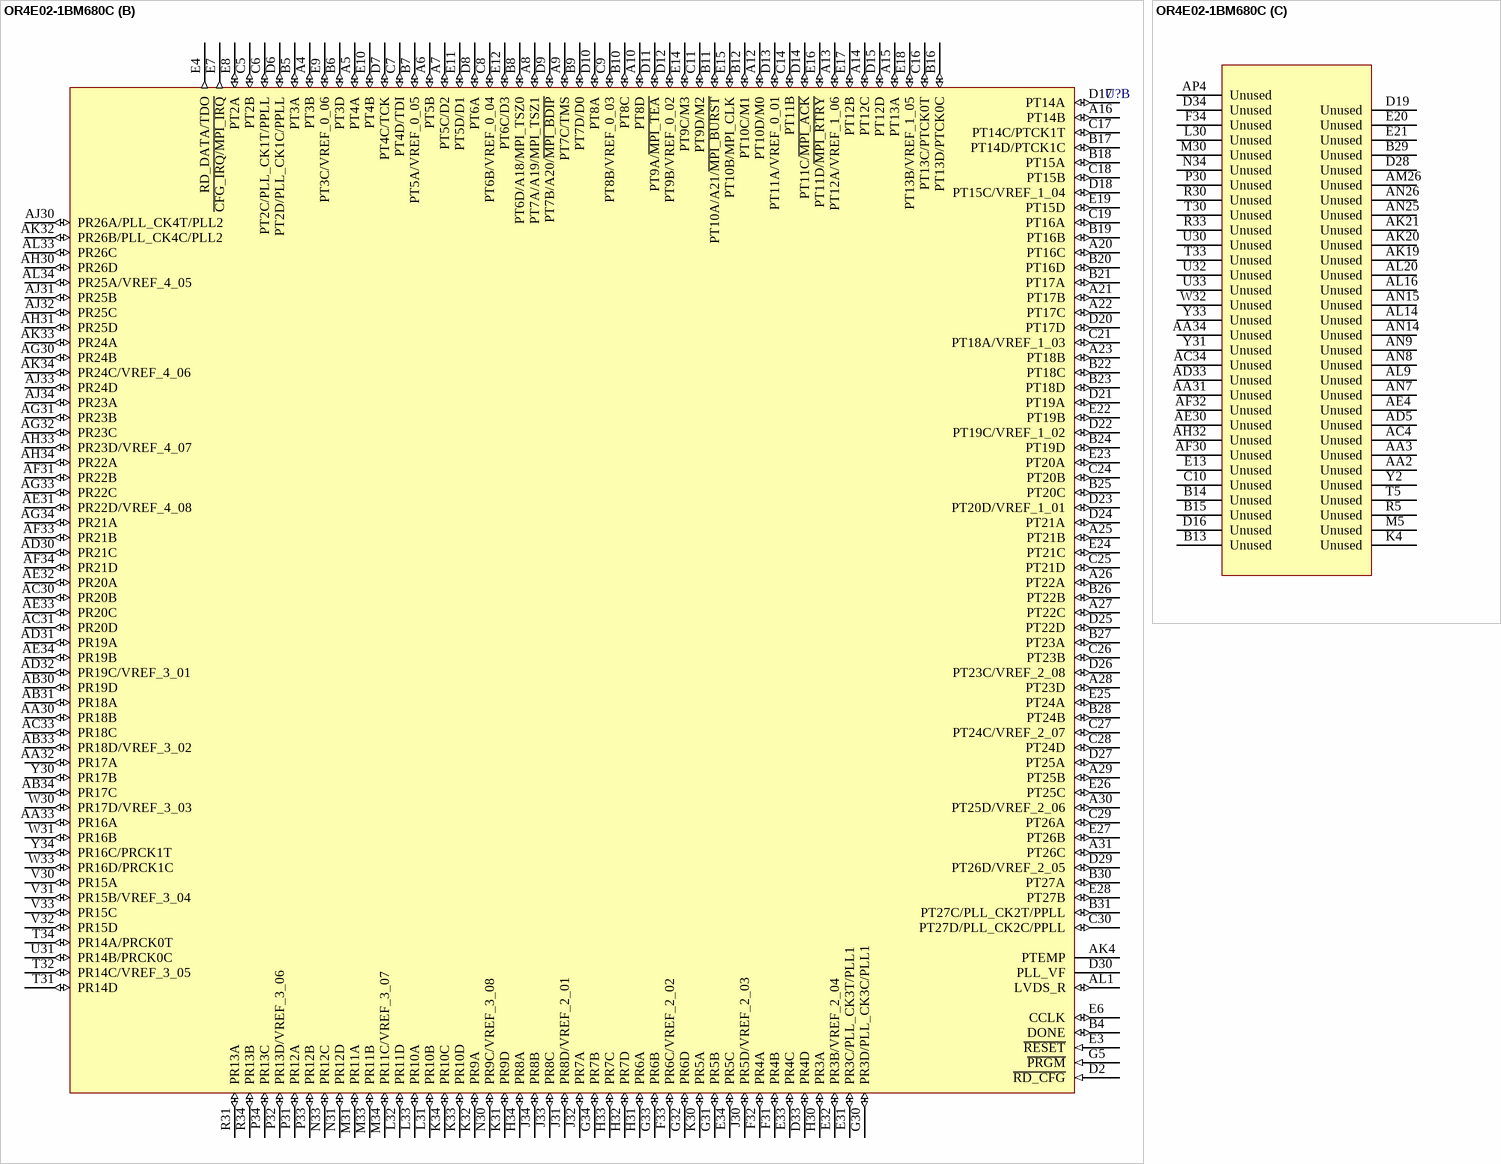
[diagram p13: symbol OR4E02-1BM680C]

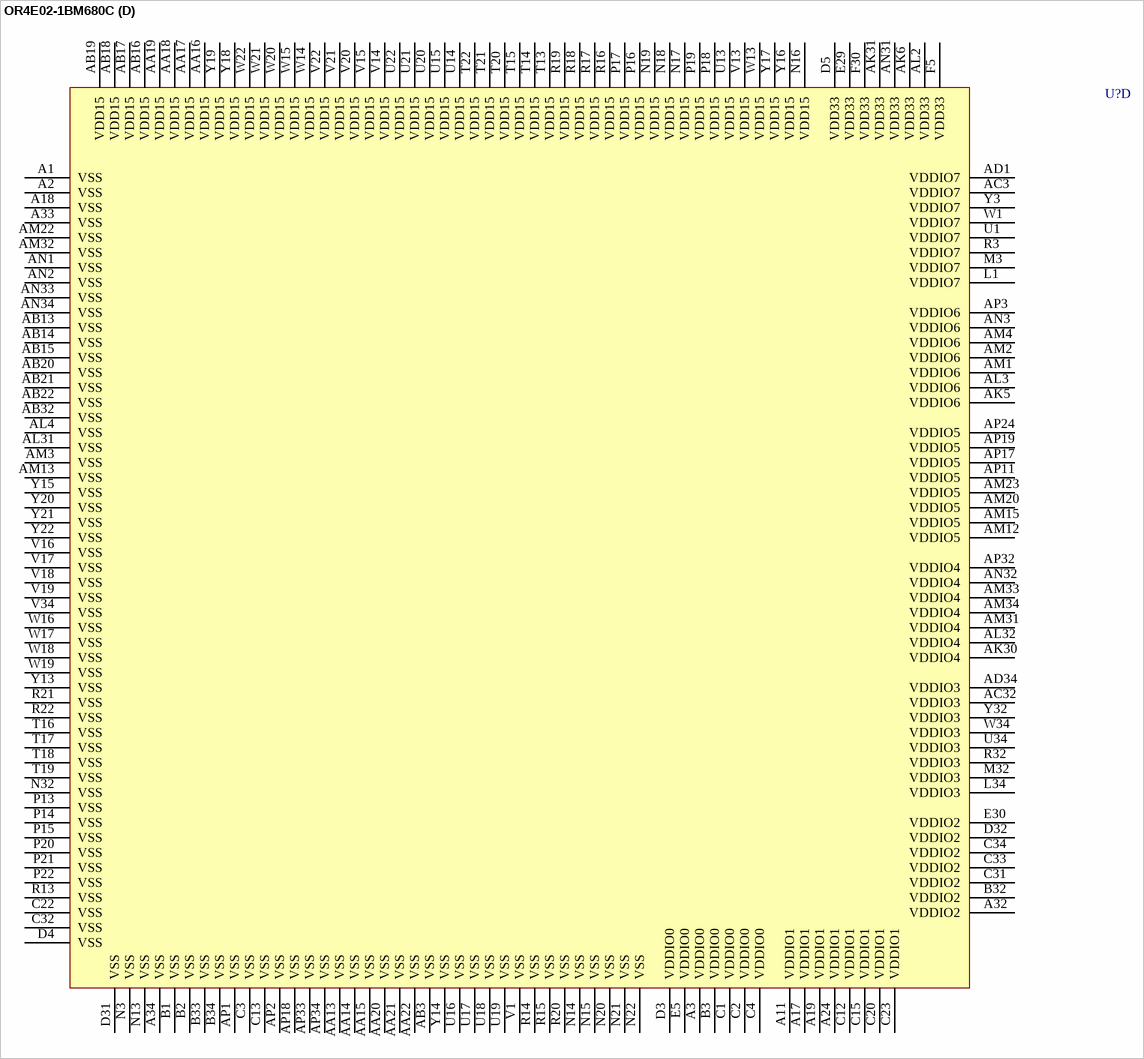
[diagram p14: symbol OR4E02-1BM680C]